# EAGLE library part ATTINY84A-SSU (library Custom)
IC, 8BIT MCU, AVR Tiny, 20MHZ, SOIC-14
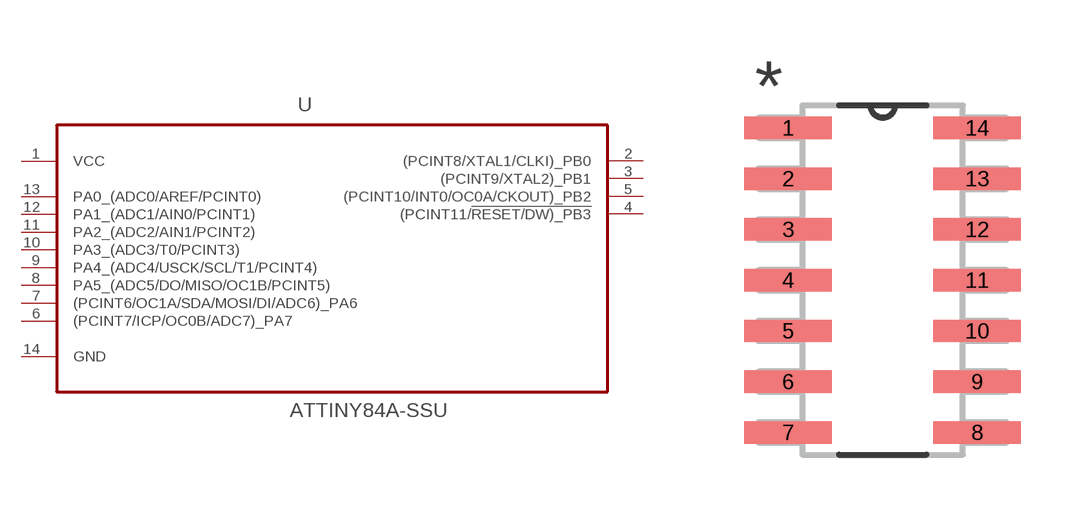
[diagram p0: symbol with the pads of SOIC127P600X175-14N; footprint SOIC127P600X175-14N]

Designator prefix U

## ATTINY84A-SSU (MPN: ATTINY84A-SSU; OC_FARNELL: Unknown; OC_NEWARK: 68T3793; PACKAGE: SOIC-14; SUPPLIER: ATMEL)  [SOIC127P600X175-14N]
1  VCC  pwr
2  (PCINT8/XTAL1/CLKI)_PB0
3  (PCINT9/XTAL2)_PB1
4  (PCINT11/!RESET/DW)_PB3
5  (PCINT10/INT0/OC0A/CKOUT)_PB2
6  (PCINT7/ICP/OC0B/ADC7)_PA7
7  (PCINT6/OC1A/SDA/MOSI/DI/ADC6)_PA6
8  PA5_(ADC5/DO/MISO/OC1B/PCINT5)
9  PA4_(ADC4/USCK/SCL/T1/PCINT4)
10  PA3_(ADC3/T0/PCINT3)
11  PA2_(ADC2/AIN1/PCINT2)
12  PA1_(ADC1/AIN0/PCINT1)
13  PA0_(ADC0/AREF/PCINT0)
14  GND  pas

## Footprint SOIC127P600X175-14N (pad centres in mm)
smd 2.184 x 0.559: 1 -2.362,3.81; 2 -2.362,2.54; 3 -2.362,1.27; 4 -2.362,0; 5 -2.362,-1.27; 6 -2.362,-2.54; 7 -2.362,-3.81; 8 2.362,-3.81; 9 2.362,-2.54; 10 2.362,-1.27; 11 2.362,0; 12 2.362,1.27; 13 2.362,2.54; 14 2.362,3.81